# Altium schematic symbol library DLP-Cape.SchLib: 19 symbols
Pins are listed as number, name and electrical type; pins without a type are passive.

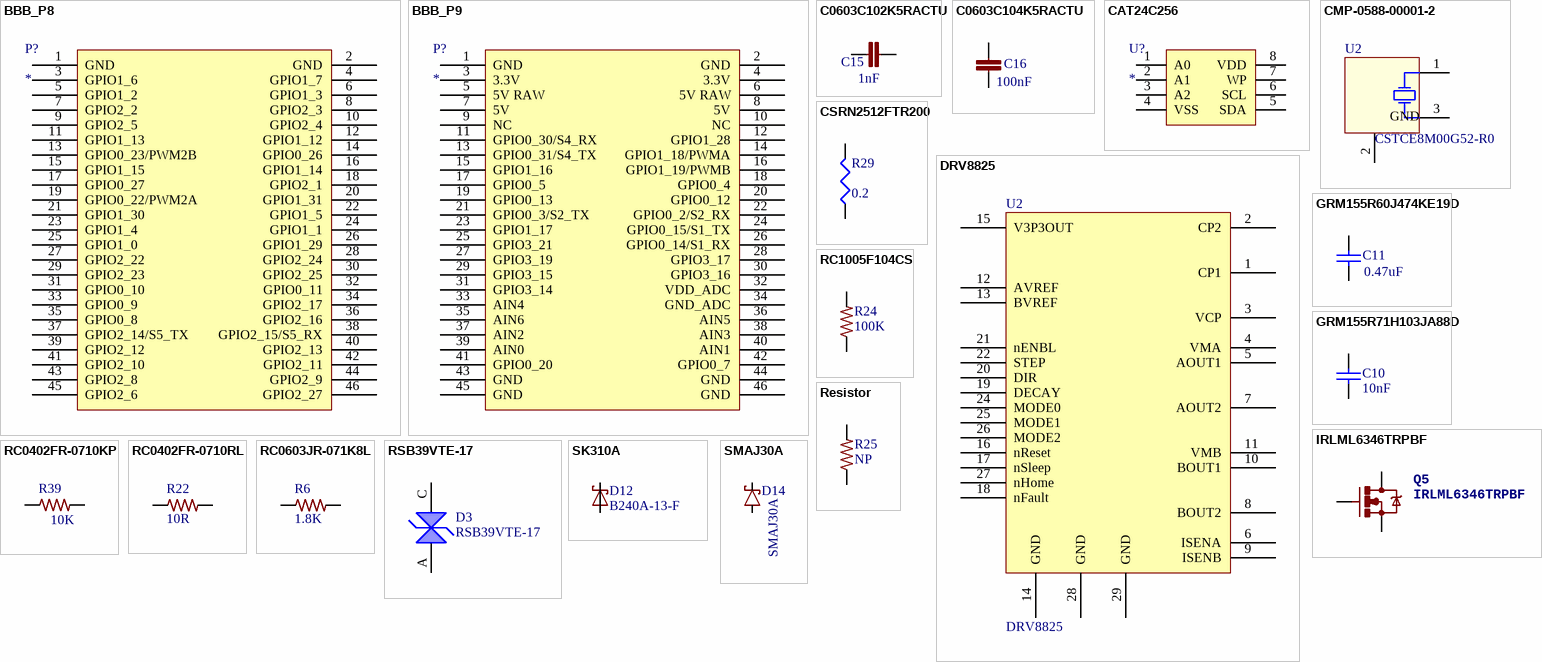
[diagram p0: symbols BBB_P8 to SMAJ30A]

## BBB_P8
designator P?
footprint BBB_CAPE_HEADER (46-pin male header for BeagleBone Black P8,P9)
pins: 1 GND, 2 GND, 3 GPIO1_6, 4 GPIO1_7, 5 GPIO1_2, 6 GPIO1_3, 7 GPIO2_2, 8 GPIO2_3, 9 GPIO2_5, 10 GPIO2_4, 11 GPIO1_13, 12 GPIO1_12, 13 GPIO0_23/PWM2B, 14 GPIO0_26, 15 GPIO1_15, 16 GPIO1_14, 17 GPIO0_27, 18 GPIO2_1, 19 GPIO0_22/PWM2A, 20 GPIO1_31, 21 GPIO1_30, 22 GPIO1_5, 23 GPIO1_4, 24 GPIO1_1, 25 GPIO1_0, 26 GPIO1_29, 27 GPIO2_22, 28 GPIO2_24, 29 GPIO2_23, 30 GPIO2_25, 31 GPIO0_10, 32 GPIO0_11, 33 GPIO0_9, 34 GPIO2_17, 35 GPIO0_8, 36 GPIO2_16, 37 GPIO2_14/S5_TX, 38 GPIO2_15/S5_RX, 39 GPIO2_12, 40 GPIO2_13, 41 GPIO2_10, 42 GPIO2_11, 43 GPIO2_8, 44 GPIO2_9, 45 GPIO2_6, 46 GPIO2_27

## BBB_P9
designator P?
footprint BBB_CAPE_HEADER (46-pin male header for BeagleBone Black P8,P9)
pins: 1 GND, 2 GND, 3 3.3V, 4 3.3V, 5 5V RAW, 6 5V RAW, 7 5V, 8 5V, 9 NC, 10 NC, 11 GPIO0_30/S4_RX, 12 GPIO1_28, 13 GPIO0_31/S4_TX, 14 GPIO1_18/PWMA, 15 GPIO1_16, 16 GPIO1_19/PWMB, 17 GPIO0_5, 18 GPIO0_4, 19 GPIO0_13, 20 GPIO0_12, 21 GPIO0_3/S2_TX, 22 GPIO0_2/S2_RX, 23 GPIO1_17, 24 GPIO0_15/S1_TX, 25 GPIO3_21, 26 GPIO0_14/S1_RX, 27 GPIO3_19, 28 GPIO3_17, 29 GPIO3_15, 30 GPIO3_16, 31 GPIO3_14, 32 VDD_ADC, 33 AIN4, 34 GND_ADC, 35 AIN6, 36 AIN5, 37 AIN2, 38 AIN3, 39 AIN0, 40 AIN1, 41 GPIO0_20, 42 GPIO0_7, 43 GND, 44 GND, 45 GND, 46 GND

## C0603C102K5RACTU
designator C15, comment 1nF
CAP CER 0603  1nF 50v 10% X7R; ManufacturerPartNumber: C0603C102K5RACTU; LastRevisionNote: ImportComponents; Published: 23-Apr-2014; Publisher: UltiMachine; LastRevisionDate: 23-Apr-2014; VALUE: 1nF
signal-integrity model Model Name (Model Description)
simulation model Model Name (Model Description)
footprint C0603
pins: 1, 2

## C0603C104K5RACTU
designator C16, comment 100nF
CAP CER 0603 100nF 50V 10% X7R; ManufacturerPartNumber: C0603C104K5RACTU; LastRevisionNote: ImportComponents; Published: 23-Apr-2014; Publisher: UltiMachine; LastRevisionDate: 23-Apr-2014; VALUE: 100nF
signal-integrity model Model Name (Model Description)
simulation model Model Name (Model Description)
footprint C0603
pins: 1, 2

## CAT24C256
designator U?
footprint SOIC-8 (SOIC, 8-Leads, Body 5.1x4.0mm (max), Pitch 1.27mm, IPC Medium Density)
pins: 1 A0, 2 A1, 3 A2, 4 VSS, 5 SDA, 6 SCL, 7 WP, 8 VDD

## CMP-0588-00001-2
designator U2, comment CSTCE8M00G52-R0
Ceramic Resonator, 8 MHz with Built-in Capacitance, Thickness Expander Mode, Initial Frequency Tolerance +/- 0.5%, Load Capacity 15 pF, -20 to 80 degC, 3.2 x 1.3 x 1 mm SMD, RoHS, Reel; Autodesk Part Number: 001-ELC-0305; Manufacturer 1: Murata Electronics; Supplier 1: Mouser; Supplier Part Number 1: 490-5994-1-ND; Supplier 2: Mouser; Supplier Part Number 2: 81-CSTCE8M00G52-R0; Supplier 3: Mouser; Supplier Part Number 3: 490-5994-6-ND; Library Ref: Isaac Main; Manufacturer Part Number 1: CSTCE8M00G52-R0; Supplier Unit Price 1: 0.375; Supplier Unit Price 2: 0.375; Supplier Unit Price 3: 0.375
footprint MURA-CSTCE_V-3_V (SMD, 3-Leads, Body 3.2x1.3mm, Pitch 0.95mm)
pins: 1 C1, 2 GND (power), 3 C2

## CSRN2512FTR200
designator R29, comment value 0.2  (hidden comment: 2512)
RES SMD 0.2 OHM 1% 2W 2512; MFR: Stackpole ELectronics Inc; MFR #: CSRN2512FTR100; PackageReference: 2512; Digikey #: CSRN2512FTR100TR-ND; PDF: http://www.seielect.com/catalog/SEI-CSR_CSRN.pdf
simulation model RESISTOR (Resistor)
signal-integrity model Res
footprint 2512R-0.55 (2512 Resistor 6.35mm x 3.2mm x 0.55mm)
pins: 1, 2

## DRV8825
designator U2
DRV8825 Ti Stepper Driver; Part Number: DRV8825PWPR; Manufacture: Texas Instruments; Mountining Type: SMD - Ti PowerPAD Package; Voltage: 8.2-45VDC; Cost (1000 qty): 2.25; Status: In-Production; Pins: 28 Pins and one Exposed Pad; Datasheet: http://www.ti.com/lit/gpn/drv8825; Height: 1.2mm; Tolerance: N/A; Type: Stepper Driver - Integrated Circuit; Lead Free: YES
footprint DRV8825PWPR (PowerPAD (HTSSOP) - PWP)
pins: 1 CP1, 2 CP2, 3 VCP, 4 VMA, 5 AOUT1, 6 ISENA, 7 AOUT2, 8 BOUT2, 9 ISENB, 10 BOUT1, 11 VMB, 12 AVREF, 13 BVREF, 14 GND, 15 V3P3OUT, 16 nReset, 17 nSleep, 18 nFault, 19 DECAY, 20 DIR, 21 nENBL, 22 STEP, 23 NC hidden, 24 MODE0, 25 MODE1, 26 MODE2, 27 nHome, 28 GND, 29 GND

## GRM155R60J474KE19D
designator C11, comment value 0.47uF  (hidden comment: 0402)
0.47uF 6.3v C0402 - GRM155R60J474KE19D; MFR: Murata; Part Description: CAP CER 0.47UF 6.3V 10% X5R 0402; Tolerance: 10%; Voltage: 6.3VDC; Published: 10 - Dec - 2014; LatestRevisionDate: 10 - Dec - 2014; LatestRevisionNote: Ultimachine Footprint Added; Publisher: Ultimachine; Component Type: Chip Capacitor; MFR Part #: GRM155R60J474KE19D; Mounting Type: SMT 0402; Datasheet: http://search.murata.co.jp/Ceramy/image/img/A01X/G101/ENG/GRM155R60J474KE19-01.pdf; Height: 0.5 ±0.05mm; PackageReference: 0402
simulation model CAP (Semiconductor Capacitor)
signal-integrity model Cap Semi
footprint C0402
pins: 1, 2

## GRM155R71H103JA88D
designator C10, comment 10nF
CAP CER 10nF 50V X7R 0402; MFR Part #: GRM155R71H103JA88D; MFR: Murata; Part Description: CAP CER 10000PF 50V X7R 0402; Tolerance: 10%; Voltage: 6.3VDC; Value: 0.01uF 50V; Published: 10 - Dec - 2014; LatestRevisionDate: 10 - Dec - 2014; LatestRevisionNote: Ultimachine Footprint Added; Publisher: Ultimachine; Component Type: Chip Capacitor; Mounting Type: SMT 0402; Datasheet: http://search.murata.co.jp/Ceramy/image/img/A01X/G101/ENG/GRM155R71H103JA88-01.pdf; Height: 0.5 ±0.05mm; Digikey #: 490-7763-1-ND; PackageReference: 0402
simulation model CAP (Semiconductor Capacitor)
signal-integrity model Cap Semi
footprint C0402
pins: 1, 2

## IRLML6346TRPBF
designator Q5
Mosfet N-Channel 30V 3.4A 63mOhm; LastRevisionNote: ImportComponents; Published: 23-Apr-2014; Publisher: UltiMachine; LastRevisionDate: 23-Apr-2014; ManufacturerPartNumber: IRLML6346TRPBF
footprint SOT23-3
pins: 1 G, 2 S, 3 D

## RC0402FR-0710KP
designator R39, comment 10K
RES SMD 10K OHM 1% 1/16W 0402; ManufacturerPartNumber: RC0402FR-0710KP; LastRevisionNote: ImportComponents; Published: 23-Apr-2014; Publisher: UltiMachine; LastRevisionDate: 23-Apr-2014; VALUE: 10K
signal-integrity model Model Name (Model Description)
simulation model Model Name (Model Description)
footprint R0402
pins: 1, 2

## RC0402FR-0710RL
designator R22, comment 10R
RES SMD 10 OHM 1% 1/16W 0402; ManufacturerPartNumber: RC0402FR-0710KP; LastRevisionNote: ImportComponents; Published: 23-Apr-2014; Publisher: UltiMachine; LastRevisionDate: 23-Apr-2014; VALUE: 10R
signal-integrity model Model Name (Model Description)
simulation model Model Name (Model Description)
footprint R0402
pins: 1, 2

## RC0603JR-071K8L
designator R6, comment 1.8K
RES 0603 1.8K 100mW 5%; ManufacturerPartNumber: RC0603JR-071K8L; LastRevisionNote: ImportComponents; Published: 23-Apr-2014; Publisher: UltiMachine; LastRevisionDate: 23-Apr-2014; VALUE: 1.8K
signal-integrity model Model Name (Model Description)
simulation model Model Name (Model Description)
footprint R0603
pins: 1, 2

## RC1005F104CS
designator R24, comment 100K
RES SMD 100K OHM 1% 1/16W 0402; Manufacturer: Samsung; ManufacturerPartNumber: RC1005F104CS; LastRevisionNote: ImportComponents; Digilkey #: 1276-3432-1-ND; Published: 23-Apr-2014; Publisher: UltiMachine; LastRevisionDate: 23-Apr-2014; VALUE: 100K
signal-integrity model Model Name (Model Description)
simulation model Model Name (Model Description)
footprint R0402
pins: 1, 2

## Resistor
designator R25, comment NP
Resistor; LastRevisionNote: ImportComponents; Published: 23-Apr-2014; Publisher: UltiMachine; LastRevisionDate: 23-Apr-2014; VALUE: NP
footprint R0402
footprint R0603
footprint R1206
signal-integrity model Model Name (Model Description)
simulation model Model Name (Model Description)
footprint RN2010
pins: 1, 2

## RSB39VTE-17
designator D3
DIODE TVS
footprint SOD323-R
pins: A (power), C (power)

## SK310A
designator D12, comment B240A-13-F
DIODE Schottky 3A SMA; ManufacturerPartNumber: SK310A; LastRevisionNote: ImportComponents; Published: 23-Apr-2014; Publisher: UltiMachine; LastRevisionDate: 23-Apr-2014
footprint SMA-SM
pins: A, C

## SMAJ30A
designator D14
DIODE TVS 30V SMA; LastRevisionNote: ImportComponents; Published: 23-Apr-2014; Publisher: UltiMachine; LastRevisionDate: 23-Apr-2014; ManufacturerPartNumber: SMAJ30A
footprint SMA-SM
pins: A, C